# Altium integrated library SJ-43516-SMT-BE.IntLib: 1 symbol
Pins are listed as number, name and electrical type; pins without a type are passive.

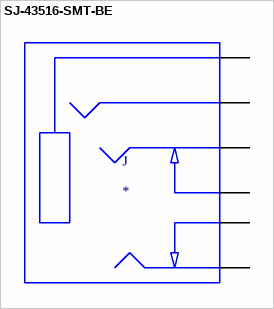
[diagram p0: symbol SJ-43516-SMT-BE]

## SJ-43516-SMT-BE
designator J
3.5 mm, 4 Conductors, Right Angle, Surface Mount _SMT_, Audio Jack Connector; MP: SJ-43516-SMT-TR-BE; MF: CUI Devices; SnapEDA_Link: https://www.snapeda.com/parts/SJ-43516-SMT-TR-BE/CUI%20Devices/view-part/490913/?ref=snap; Package: None; Availability: Unavailable; Price: None; Value: *
footprint CUI_SJ-43516-SMT-BE
pins: 1 SLEEVE, 2 TIP, 3 RING1, 4 RING2, 5 TIP_SWITCH, 6 RING_SWITCH